# EAGLE library part M04X2-POWER (library Connectors)
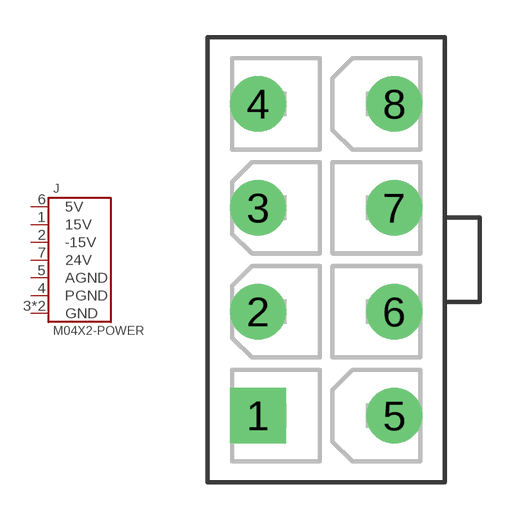
[diagram p18: symbol with the pads of 0039281083; footprint 0039281083]

Designator prefix J

## M04X2-POWER  [0039281083]
1  15V
2  -15V
3  GND
4  PGND
5  AGND
6  5V
7  24V
8  GND

## Footprint 0039281083 (pad centres in mm)
drill 1.4 pad 2.261 square: 1 -2.75,-6.3
drill 1.4 pad 2.261: 2 -2.75,-2.1; 3 -2.75,2.1; 4 -2.75,6.3; 5 2.75,-6.3; 6 2.75,-2.1; 7 2.75,2.1; 8 2.75,6.3